# EAGLE library part LIS344AL (library ads1292_Dorokhov)
MEMS inertial sensor
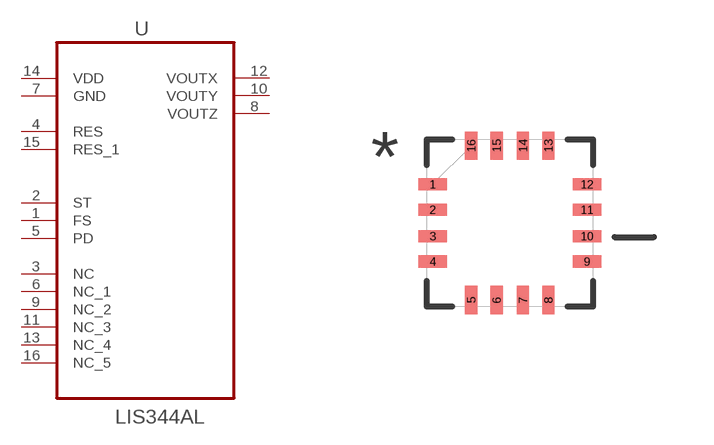
[diagram p3: symbol with the pads of LGA16R65P4X4_400X400X160; footprint LGA16R65P4X4_400X400X160]

Designator prefix U

## LIS344AL (MPN: LIS344AL; OC_FARNELL: 1838529; OC_NEWARK: 56P7991; PACKAGE: LGA-16; SUPPLIER: STMicroelectronics)  [LGA16R65P4X4_400X400X160]
1  FS  pas
2  ST  pas
3  NC  nc
4  RES  pas
5  PD  pas
6  NC_1  nc
7  GND  pas
8  VOUTZ  out
9  NC_2  nc
10  VOUTY  out
11  NC_3  nc
12  VOUTX  out
13  NC_4  nc
14  VDD  pwr
15  RES_1  pas
16  NC_5  nc

## Footprint LGA16R65P4X4_400X400X160 (pad centres in mm)
smd 0.711 x 0.305: 1 -1.93,0.965; 2 -1.93,0.33; 3 -1.93,-0.33; 4 -1.93,-0.965; 9 1.93,-0.965; 10 1.93,-0.33; 11 1.93,0.33; 12 1.93,0.965
smd 0.305 x 0.711: 5 -0.965,-1.93; 6 -0.33,-1.93; 7 0.33,-1.93; 8 0.965,-1.93; 13 0.965,1.93; 14 0.33,1.93; 15 -0.33,1.93; 16 -0.965,1.93